# EAGLE library part *04 (library digital)
74xx04: Hex inverter
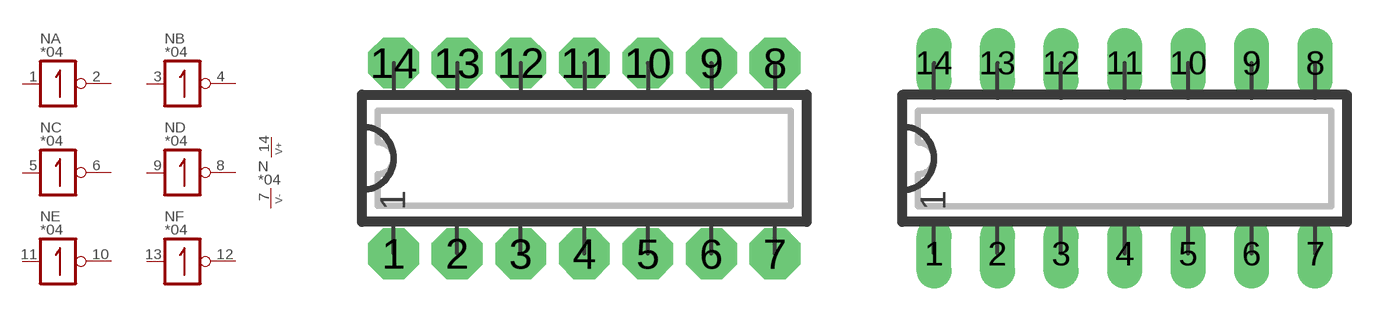
[diagram p19: symbol with the pads of DIP14N; footprints DIP14N, DIP14L]

Designator prefix N; gates A=INV C=INV E=INV B=INV D=INV F=INV P=V+-

## 7404N, 74AC04N, 74ACT04N, 74ALS04N, 74AS04N, 74C04N, 74HC04N, 74HCT04N, 74L04N, 74LS04N, 74S04N  [DIP14N]
1  A:I  in
2  A:O  out
3  B:I  in
4  B:O  out
5  C:I  in
6  C:O  out
7  P:V-  pwr
8  D:O  out
9  D:I  in
10  E:O  out
11  E:I  in
12  F:O  out
13  F:I  in
14  P:V+  pwr

## 7404L, 74AC04L, 74ACT04L, 74ALS04L, 74AS04L, 74C04L, 74HC04L, 74HCT04L, 74L04L, 74LS04L, 74S04L  [DIP14L]
Pads as for DIP14N

## 7404, 74AC04, 74ACT04, 74ALS04, 74AS04, 74C04, 74HC04, 74HCT04, 74L04, 74LS04, 74S04  [DIP14L]
Pads as for DIP14N

## 7404R, 74AC04R, 74ACT04R, 74ALS04R, 74AS04R, 74C04R, 74HC04R, 74HCT04R, 74L04R, 74LS04R, 74S04R  [DIP14R]
Pads as for DIP14N

## 74AC04S, 74ACT04S, 74HC04S, 74HCT04S  [SO14]
Pads as for DIP14N

## Footprint DIP14N (pad centres in mm)
DIP-14 Standard IC package, 14 pins
drill 0.813 pad 2.032 octagon: 1 0,0; 2 2.54,0; 3 5.08,0; 4 7.62,0; 5 10.16,0; 6 12.7,0; 7 15.24,0; 8 15.24,7.62; 9 12.7,7.62; 10 10.16,7.62; 11 7.62,7.62; 12 5.08,7.62; 13 2.54,7.62; 14 0,7.62

## Footprint DIP14L (pad centres in mm)
DIP-14, long pads Standard IC package, 14 pins
drill 0.813 pad 1.397 long: 1 0,0; 2 2.54,0; 3 5.08,0; 4 7.62,0; 5 10.16,0; 6 12.7,0; 7 15.24,0; 8 15.24,7.62; 9 12.7,7.62; 10 10.16,7.62; 11 7.62,7.62; 12 5.08,7.62; 13 2.54,7.62; 14 0,7.62

## Footprint DIP14R (pad centres in mm)
DIP-14, reduced pads Standard IC package, 14 pins
drill 0.813 pad 1.397 square: 1 0,0; 2 2.54,0; 3 5.08,0; 4 7.62,0; 5 10.16,0; 6 12.7,0; 7 15.24,0; 8 15.24,7.62; 9 12.7,7.62; 10 10.16,7.62; 11 7.62,7.62; 12 5.08,7.62; 13 2.54,7.62; 14 0,7.62

## Footprint SO14 (pad centres in mm)
SO-14, SMD SOIC IC package, 14 pins
smd 0.635 x 1.778: 1 -3.81,-2.857; 2 -2.54,-2.857; 3 -1.27,-2.857; 4 0,-2.857; 5 1.27,-2.857; 6 2.54,-2.857; 7 3.81,-2.857; 8 3.81,2.857; 9 2.54,2.857; 10 1.27,2.857; 11 0,2.857; 12 -1.27,2.857; 13 -2.54,2.857; 14 -3.81,2.857